# Altium footprint library CONN_OPTIC.PcbLib: 5 footprints
Each footprint in its own frame and in the unit in brackets; x right, y up, seen from the top. Pads: shape width x height; smd on the part's side, far side on the other; paste and mask are expansions set on the pad; w line width, h text height; cw(c..) or ccw(c..) is an arc to the next point about the centre after c.
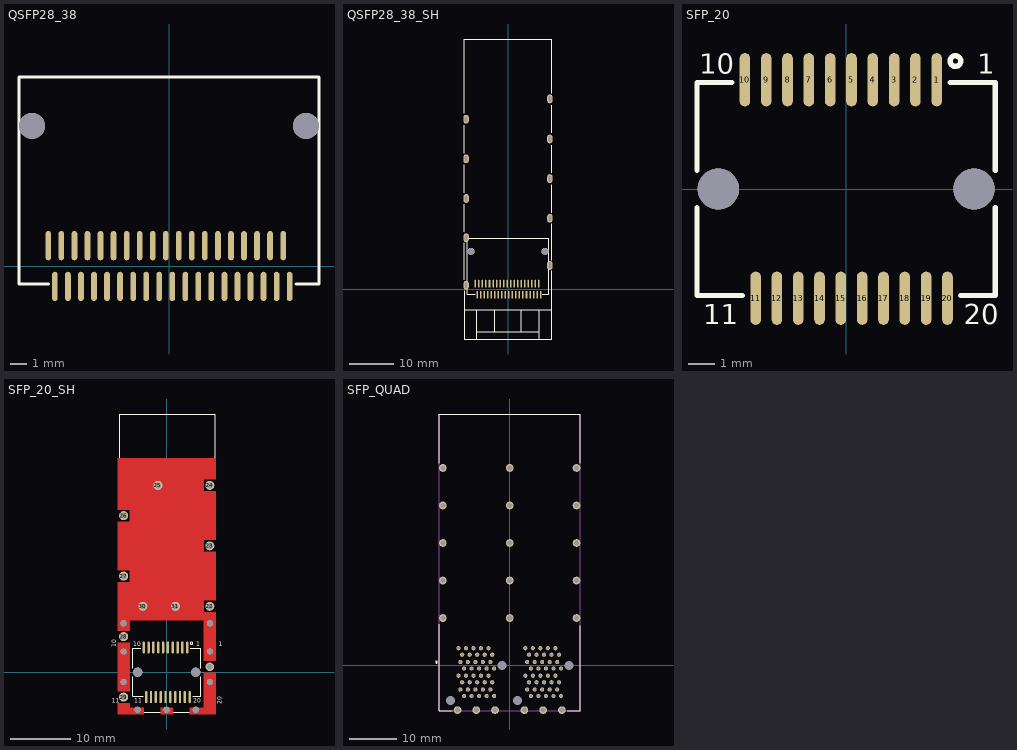
[diagram p0: the footprints below, top view; thin cyan lines are the x and y axes]

## QSFP28_38 [mm] "zQSFP+/QSFP28 Conn, TE 1551920-2"
pads (40):
  oval 0.35x1.8 smd mask+0.075: 1(7,1.25) 2(6.2,1.25) 3(5.4,1.25) 4(4.6,1.25) 5(3.8,1.25) 6(3,1.25) 7(2.2,1.25) 8(1.4,1.25) 9(0.6,1.25) 10(-0.2,1.25) 11(-1,1.25) 12(-1.8,1.25) 13(-2.6,1.25) 14(-3.4,1.25) 15(-4.2,1.25) 16(-5,1.25) 17(-5.8,1.25) 18(-6.6,1.25) 19(-7.4,1.25) 20(-7,-1.25) 21(-6.2,-1.25) 22(-5.4,-1.25) 23(-4.6,-1.25) 24(-3.8,-1.25) 25(-3,-1.25) 26(-2.2,-1.25) 27(-1.4,-1.25) 28(-0.6,-1.25) 29(0.2,-1.25) 30(1,-1.25) 31(1.8,-1.25) 32(2.6,-1.25) 33(3.4,-1.25) 34(4.2,-1.25) 35(5,-1.25) 36(5.8,-1.25) 37(6.6,-1.25) 38(7.4,-1.25)
  round 1.6 hole 1.6 unplated: ""(-8.4,8.6) ""(8.4,8.6)
Top Overlay:
  lines w0.2: -7.4,-1.1 -9.2,-1.1 -9.2,11.6 9.2,11.6 9.2,-1.1 7.8,-1.1
3D body "c-1551920-2-d-3d.stp": height 6.2, standoff -0.9, extent -9.1,-1.81 9.1,11.5

## QSFP28_38_SH [mm] "zQSFP+/QSFP28 Conn, TE 1551920-2 + 2170705-7"
pads (50):
  oval 0.35x1.8 smd mask+0.075: 1(7,1.25) 2(6.2,1.25) 3(5.4,1.25) 4(4.6,1.25) 5(3.8,1.25) 6(3,1.25) 7(2.2,1.25) 8(1.4,1.25) 9(0.6,1.25) 10(-0.2,1.25) 11(-1,1.25) 12(-1.8,1.25) 13(-2.6,1.25) 14(-3.4,1.25) 15(-4.2,1.25) 16(-5,1.25) 17(-5.8,1.25) 18(-6.6,1.25) 19(-7.4,1.25) 20(-7,-1.25) 21(-6.2,-1.25) 22(-5.4,-1.25) 23(-4.6,-1.25) 24(-3.8,-1.25) 25(-3,-1.25) 26(-2.2,-1.25) 27(-1.4,-1.25) 28(-0.6,-1.25) 29(0.2,-1.25) 30(1,-1.25) 31(1.8,-1.25) 32(2.6,-1.25) 33(3.4,-1.25) 34(4.2,-1.25) 35(5,-1.25) 36(5.8,-1.25) 37(6.6,-1.25) 38(7.4,-1.25)
  oval 1.2x2 hole 0.6 slot 1.2 at 90 deg: 39(-9.5,0.9) 40(-9.5,11.7) 41(-9.5,20.6) 42(-9.5,29.6) 43(-9.5,38.6) 44(9.5,43.2) 45(9.5,34.1) 46(9.5,25.1) 47(9.5,16.1) 48(9.5,5.4)
  round 1.6 hole 1.6 unplated: ""(-8.4,8.6) ""(8.4,8.6)
Top Overlay:
  lines w0.2: -9.9,-4.7 9.9,-4.7 ; -9.9,-0.4 -9.9,-11.3 9.9,-11.3 9.9,4.2 ; -9.9,2.2 -9.9,10.5 ; -9.9,13 -9.9,19.3 ; -9.9,21.9 -9.9,28.2 ; -9.9,30.9 -9.9,37.2 ; -9.9,39.9 -9.9,56.8 9.9,56.8 9.9,44.5 ; -7.4,-1.1 -9.2,-1.1 -9.2,11.6 9.2,11.6 9.2,-1.1 7.8,-1.1 ; -7.1,-11.3 -7.1,-4.7 ; -7.1,-9.7 7.1,-9.7 ; -3,-9.7 -3,-4.7 ; 3,-9.7 3,-4.7 ; 7.1,-11.3 7.1,-4.7 ; 9.9,6.6 9.9,14.9 ; 9.9,17.4 9.9,23.7 ; 9.9,26.4 9.9,32.7 ; 9.9,35.5 9.9,41.8
3D body "c-1551920-2-d-3d.stp": height 6.2, standoff -0.9, extent -9.1,-1.81 9.1,11.5
3D body "c-2170705-7-a-3d.stp": height 15.11, standoff -2.05, extent -10.721,-11.2 10.721,56.73

## SFP_20 [mm] "SFP+ Conn, MOLEX, 74441-0010, 74737-0010"
pads (22):
  oval 0.4x2 smd mask+0.1: 1(3.399,4.1) 2(2.599,4.1) 3(1.799,4.1) 4(0.999,4.1) 5(0.199,4.1) 6(-0.601,4.1) 7(-1.401,4.1) 8(-2.201,4.1) 9(-3.001,4.1) 10(-3.801,4.1) 11(-3.4,-4.1) 12(-2.6,-4.1) 13(-1.8,-4.1) 14(-1,-4.1) 15(-0.2,-4.1) 16(0.6,-4.1) 17(1.4,-4.1) 18(2.2,-4.1) 19(3,-4.1) 20(3.8,-4.1)
  round 1.549 hole 1.549: " "(-4.8,0) " "(4.8,0)
Top Overlay:
  circle w0.2: c4.1,4.8 r0.2
  lines w0.2: -5.6,-0.7 -5.6,-4 -3.9,-4 ; -5.6,0.7 -5.6,4 -4.3,4 ; 3.9,4 5.6,4 5.6,0.7 ; 4.3,-4 5.6,-4 5.6,-0.7
  text "1" at 4.911,4.325 h0.75
  text "20" at 4.416,-5.075 h0.75
  text "10" at -5.525,4.325 h0.75
  text "11" at -5.364,-5.075 h0.75
3D body "744410010.stp": height 5.37, standoff -0.9, extent -5.5,-4.575 5.5,4.575

## SFP_20_SH [mm] "SFP Conn, MOLEX, 74441-0010, 74737-0010"
height 3.4
pads (39):
  oval 0.4x2 smd mask+0.1: 1(3.399,4.1) 2(2.599,4.1) 3(1.799,4.1) 4(0.999,4.1) 5(0.199,4.1) 6(-0.601,4.1) 7(-1.401,4.1) 8(-2.201,4.1) 9(-3.001,4.1) 10(-3.801,4.1) 11(-3.4,-4.1) 12(-2.6,-4.1) 13(-1.8,-4.1) 14(-1,-4.1) 15(-0.2,-4.1) 16(0.6,-4.1) 17(1.4,-4.1) 18(2.2,-4.1) 19(3,-4.1) 20(3.8,-4.1)
  round 1.4 hole 0.9: 21(7.13,0.9)
  round 1.5 hole 1: 22(7.13,10.9) 23(7.13,20.9) 24(7.13,30.9) 25(-1.45,30.9) 26(-7.12,25.899) 27(-7.12,15.899) 28(-7.12,5.899) 29(-7.12,-4.101) 30(-3.95,10.9) 31(1.45,10.9)
  round 1 hole 1: " "(-7.12,-1.599) " "(-7.12,3.4) " "(-4.801,-6.199) " "(0,-6.199) " "(4.801,-6.199) " "(7.13,-1.599)
  round 1.549 hole 1.549: " "(-4.8,0) " "(4.8,0)
via 7.13,3.4 diameter 1 hole 1
via 7.13,8.101 diameter 1 hole 1
via -7.12,8.101 diameter 1 hole 1
Top Layer:
  region: -1.001,-5.899 -1.001,-6.9 1.001,-6.9 1.001,-5.899
  region: 8.131,1.901 6.129,1.901 6.129,8.599 -6.121,8.599 -6.121,6.9 -8.12,6.9 -8.12,14.901 -6.121,14.901 -6.121,16.9 -8.12,16.9 -8.12,24.901 -6.121,24.901 -6.121,26.9 -8.12,26.9 -8.12,35.401 8.131,35.401 8.131,31.901 6.129,31.901 6.129,29.9 8.131,29.9 8.131,21.901 6.129,21.901 6.129,19.9 8.131,19.9 8.131,11.901 6.129,11.901 6.129,9.9 8.131,9.9
  region: 8.131,-6.9 8.131,-0.1 6.129,-0.1 6.129,-5.899 3.8,-5.899 3.8,-6.9
  region: -8.12,-5.099 -8.12,-6.9 -3.79,-6.9 -3.79,-5.899 -6.121,-5.899 -6.121,-5.099
  region: -8.12,4.901 -8.12,-3.1 -6.121,-3.1 -6.121,4.901
Top Overlay:
  circle w0.2: c4.1,4.8 r0.2
  lines w0.2: -7.8,35.5 -7.8,42.7 8,42.7 8,35.5 ; -5.6,-0.7 -5.6,-4 -3.9,-4 ; -5.6,0.7 -5.6,4 -4.3,4 ; -3.7,-6.6 -1.1,-6.6 ; 1.1,-6.6 3.7,-6.6 ; 3.9,4 5.6,4 5.6,0.7 ; 4.3,-4 5.6,-4 5.6,-0.7
  text "11" at -5.364,-5.075 h0.75
  text "10" at -5.525,4.325 h0.75
  text "20" at 4.416,-5.075 h0.75
  text "1" at 4.911,4.325 h0.75
  text "11" at -9.064,-5.075 h0.75
  text "10" at -8.325,4.175 h0.75
  text "20" at 9.075,-5.284 h0.75
  text "1" at 8.611,4.325 h0.75
3D body "744410010.stp": height 5.37, standoff -0.9, extent -5.5,-4.575 5.5,4.575
3D body "747370010.stp": height 10.42, standoff -3.22, extent -7.718,-6.5 7.918,42.495

## SFP_QUAD [mm] "0760455001"
height 0.4
pads (105):
  round 0.88 hole 0.57: L1(-10.525,0.73) L2(-9.725,-0.65) L3(-8.925,0.73) L4(-8.125,-0.65) L5(-7.325,0.73) L6(-6.525,-0.65) L7(-5.725,0.73) L8(-4.925,-0.65) L9(-4.125,0.73) L10(-3.325,-0.65) L11(-3.725,2.28) L12(-4.525,3.67) L13(-5.325,2.28) L14(-6.125,3.67) L15(-6.925,2.28) L16(-7.725,3.67) L17(-8.525,2.28) L18(-9.325,3.67) L19(-10.125,2.28) L20(-10.925,3.67) M1(3.725,0.73) M2(4.525,-0.65) M3(5.325,0.73) M4(6.125,-0.65) M5(6.925,0.73) M6(7.725,-0.65) M7(8.525,0.73) M8(9.325,-0.65) M9(10.125,0.73) M10(10.925,-0.65) M11(10.525,2.28) M12(9.725,3.67) M13(8.925,2.28) M14(8.125,3.67) M15(7.325,2.28) M16(6.525,3.67) M17(5.725,2.28) M18(4.925,3.67) M19(4.125,2.28) M20(3.325,3.67) R1(10.525,-3.59) R2(9.725,-2.2) R3(8.925,-3.59) R4(8.125,-2.2) R5(7.325,-3.59) R6(6.525,-2.2) R7(5.725,-3.59) R8(4.925,-2.2) R9(4.125,-3.59) R10(3.325,-2.2) R11(3.725,-5.14) R12(4.525,-6.52) R13(5.325,-5.14) R14(6.125,-6.52) R15(6.925,-5.14) R16(7.725,-6.52) R17(8.525,-5.14) R18(9.325,-6.52) R19(10.125,-5.14) R20(10.925,-6.52) T1(-3.725,-3.59) T2(-4.525,-2.2) T3(-5.325,-3.59) T4(-6.125,-2.2) T5(-6.925,-3.59) T6(-7.725,-2.2) T7(-8.525,-3.59) T8(-9.325,-2.2) T9(-10.125,-3.59) T10(-10.925,-2.2) T11(-10.525,-5.14) T12(-9.725,-6.52) T13(-8.925,-5.14) T14(-8.125,-6.52) T15(-7.325,-5.14) T16(-6.525,-6.52) T17(-5.725,-5.14) T18(-4.925,-6.52) T19(-4.125,-5.14) T20(-3.325,-6.52)
  round 0.95 hole 1.9 unplated: MH22(-12.625,-7.5) MH23(1.625,-7.5) MH24(-1.625,0) MH25(12.625,0)
  round 1.65 hole 1.1: SH1(-14.25,42.1) SH2(0,42.1) SH3(14.25,42.1) SH4(14.25,34.1) SH5(0,34.1) SH6(-14.25,34.1) SH7(-14.25,26.1) SH8(0,26.1) SH9(14.25,26.1) SH10(14.25,18.1) SH11(0,18.1) SH12(-14.25,18.1) SH13(-14.25,10.1) SH14(0,10.1) SH15(14.25,10.1) SH16(11.125,-9.53) SH17(7.125,-9.53) SH18(3.125,-9.53) SH19(-3.125,-9.53) SH20(-7.125,-9.53) SH21(-11.125,-9.53)
Top Overlay:
  circle w0.2: c-15.6,0.7 r0.2
  lines w0.2: -15,43.1 -15,53.6 15,53.6 15,43.1 ; -14.995,8.73 -15,-9.7 -12.3,-9.7 ; 12.3,-9.7 15,-9.7 15,8.48
Mechanical 13:
  lines w0.2: -15.02,-9.65 -15.02,53.6 15.02,53.6 15.02,-9.65 -15.02,-9.65
3D body "760455001.stp": height 26.25, standoff -3.36, extent -14.996,-9.863 15.046,53.641